# EAGLE library part ESP32-C3-WROOM-02-H4 (library SamacSys_Parts)
WiFi Modules (802.11) SMD module, ESP32-C3, 4MB SPI flash, PCB antenna, -40 C +105 C Source: Datasheet <https://www.mouser.in/datasheet/2/891/Espressif_Systems_04082021_ESP32_C3_WROOM_02-2295851.pdf>
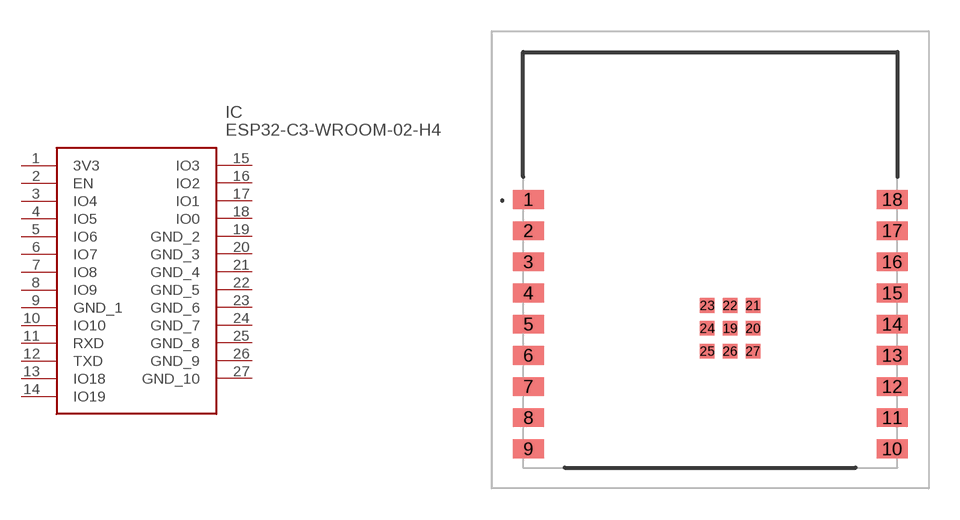
[diagram p10: symbol with the pads of ESP32C3WROOM02H4; footprint ESP32C3WROOM02H4]

Designator prefix IC

## ESP32-C3-WROOM-02-H4 (DESCRIPTION: WiFi Modules (802.11) SMD module, ESP32-C3, 4MB SPI flash, PCB antenna, -40 C +105 C; HEIGHT: 3.35mm; MANUFACTURER_NAME: Espressif Systems; MANUFACTURER_PART_NUMBER: ESP32-C3-WROOM-02-H4; MOUSER_PART_NUMBER: 356-ESP32C3WROOM02H4; MOUSER_PRICE-STOCK: https://www.mouser.co.uk/ProductDetail/Espressif-Systems/ESP32-C3-WROOM-02-H4?qs=stqOd1AaK79%2FSA14oWtR%252Bw%3D%3D)  [ESP32C3WROOM02H4]
1  3V3
2  EN
3  IO4
4  IO5
5  IO6
6  IO7
7  IO8
8  IO9
9  GND_1
10  IO10
11  RXD
12  TXD
13  IO18
14  IO19
15  IO3
16  IO2
17  IO1
18  IO0
19  GND_2
20  GND_3
21  GND_4
22  GND_5
23  GND_6
24  GND_7
25  GND_8
26  GND_9
27  GND_10

## Footprint ESP32C3WROOM02H4 (pad centres in mm)
ESP32-C3-WROOM-02-H4-3
smd 1.5 x 0.9: 1 0.75,12.9; 2 0.75,11.4; 3 0.75,9.9; 4 0.75,8.4; 5 0.75,6.9; 6 0.75,5.4; 7 0.75,3.9; 8 0.75,2.4; 9 0.75,0.9; 10 18.25,0.9; 11 18.25,2.4; 12 18.25,3.9; 13 18.25,5.4; 14 18.25,6.9; 15 18.25,8.4; 16 18.25,9.9; 17 18.25,11.4; 18 18.25,12.9
smd 0.7 x 0.7: 19 10.46,6.7; 20 11.56,6.7; 21 11.56,7.8; 22 10.46,7.8; 23 9.36,7.8; 24 9.36,6.7; 25 9.36,5.6; 26 10.46,5.6; 27 11.56,5.6